# Altium footprint library ZX20-B-5S-UNIT.PcbLib: 1 footprints
Each footprint in its own frame and in the unit in brackets; x right, y up, seen from the top. Pads: shape width x height; smd on the part's side, far side on the other; paste and mask are expansions set on the pad; w line width, h text height; cw(c..) or ccw(c..) is an arc to the next point about the centre after c.
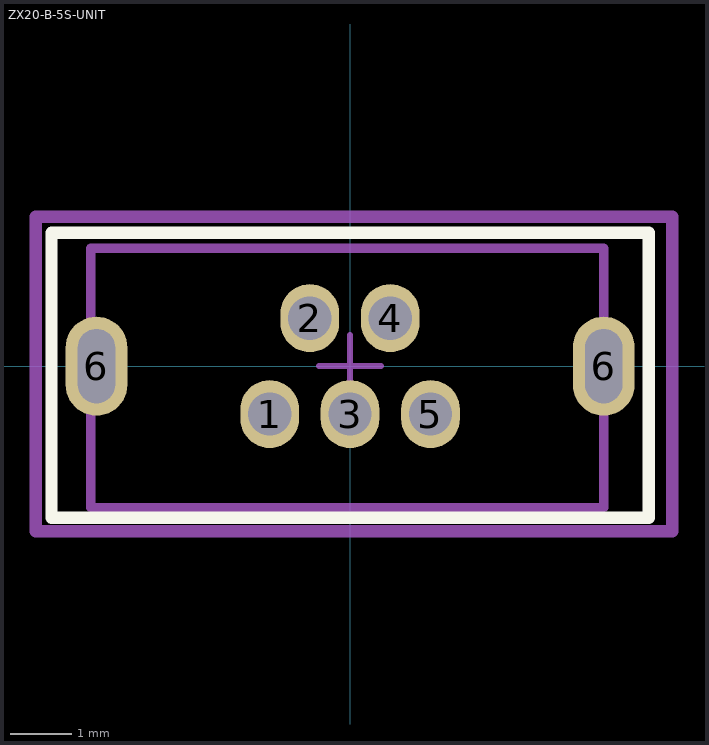
[diagram p0: the footprint, top view; thin cyan lines are the x and y axes]

## ZX20-B-5S-UNIT [mm]
pads (7):
  oval 0.95x1.1 hole 0.7 mask+0.07: 1(-1.3,-0.775) 2(-0.65,0.775) 3(0,-0.775) 4(0.65,0.775) 5(1.3,-0.775)
  oval 1x1.6 hole 0.6 slot 1.2 at 90 deg mask+0.07: 6(-4.1,0) 6(4.1,0)
Top Overlay:
  lines w0.2: -4.826,-1.778 -4.826,-2.45 ; -4.826,-2.45 -4.826,2.159 4.826,2.159 4.826,-2.45 4.064,-2.45 -4.826,-2.45
Mechanical 13:
  lines w0.15: -4.191,-2.286 4.1,-2.286 4.1,1.905 -4.191,1.905 -4.191,-2.286
Mechanical 15:
  lines w0.1: -0.5,0 0.5,0 ; 0,-0.5 0,0.5
  lines w0.2: -5.08,-2.667 5.207,-2.667 5.207,2.413 -5.08,2.413 -5.08,-2.667
Mechanical 17:
  text ".Designator" at -2.413,-0.127 h1
3D body "ZX20-B-5S.stp": height 12.2, standoff -1.4, extent -4.2,-2.3 4.2,2.1